# Altium footprint library UM_IMP_Library.PcbLib: 10 footprints
Each footprint in its own frame and in the unit in brackets; x right, y up, seen from the top. Pads: shape width x height; smd on the part's side, far side on the other; paste and mask are expansions set on the pad; w line width, h text height; cw(c..) or ccw(c..) is an arc to the next point about the centre after c.
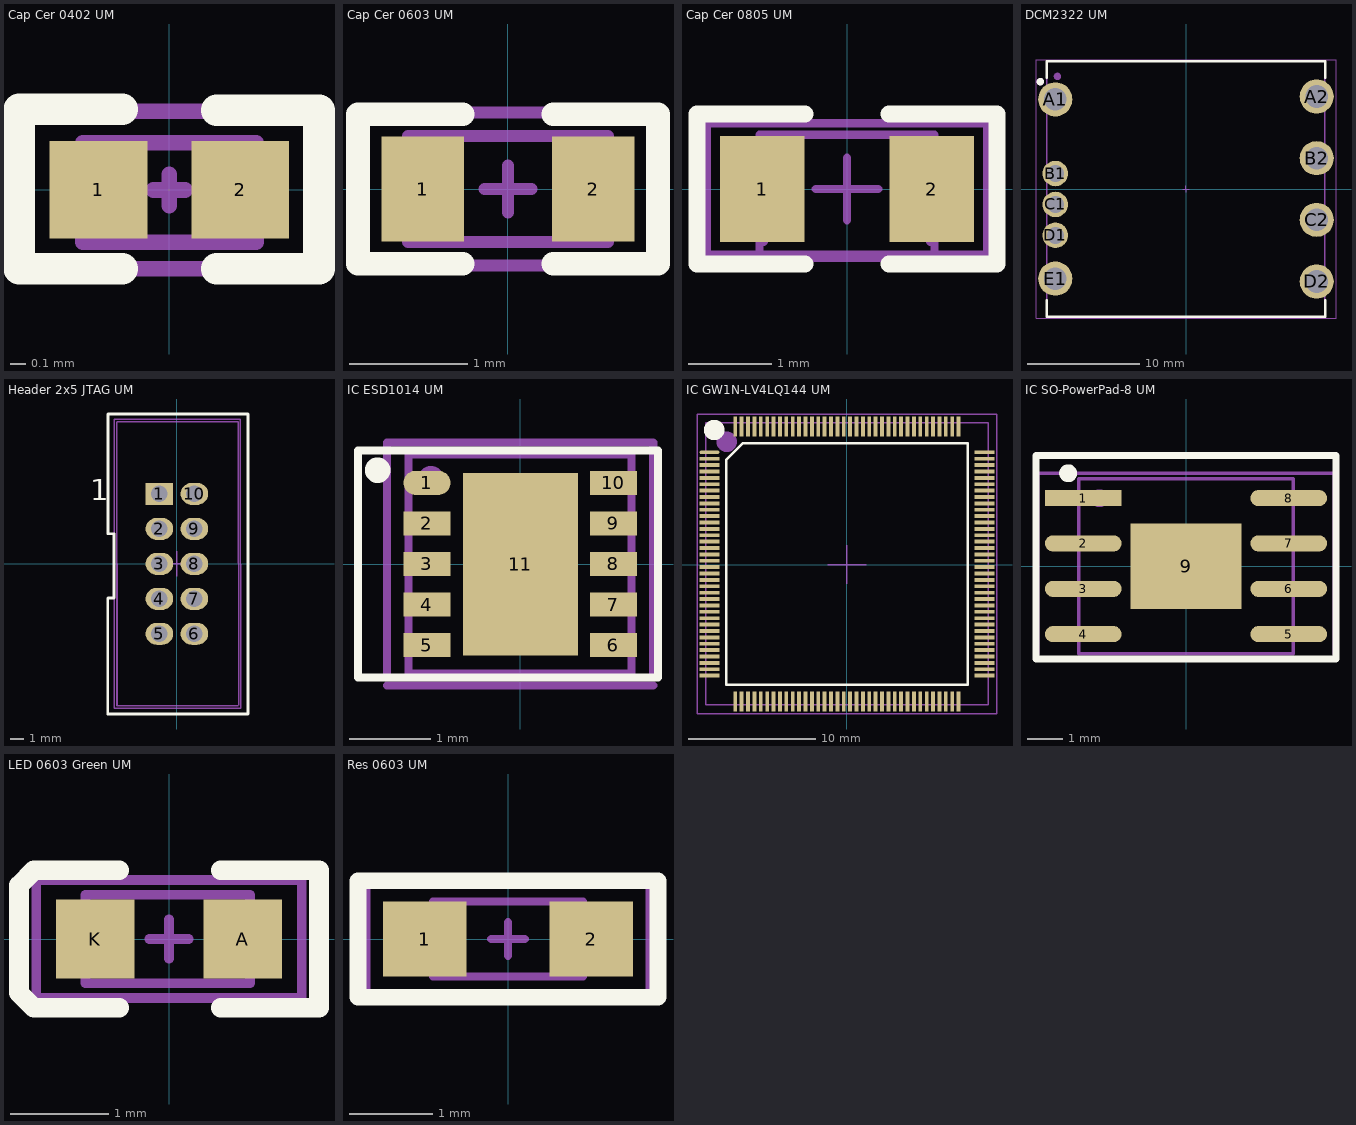
[diagram p0: the footprints below, top view; thin cyan lines are the x and y axes]

## Cap Cer 0402 UM [mm]
pads (2):
  rect 0.62x0.62 smd: 1(-0.45,0) 2(0.45,0)
Top Overlay:
  lines w0.2: -0.3,-0.5 -0.955,-0.5 -0.955,0.512 -0.3,0.512 ; 0.3,-0.5 0.95,-0.5 0.95,0.506 0.3,0.506
Top Assembly (Mech5):
  lines w0.1: -0.55,-0.333 -0.55,0.3 0.55,0.3 0.55,-0.333 -0.55,-0.333
  text ".Designator" at -0.325,-0.058 h0.3
Top Courtyard:
  lines w0.1: -0.1,0 0.1,0 ; 0,-0.1 0,0.1 ; -0.955,-0.5 -0.955,0.5 0.95,0.5 0.95,-0.5 -0.955,-0.5
3D body "User Library-0402C.STEP": height 0.37, standoff 0.01, extent -0.5,-0.265 0.5,0.265

## Cap Cer 0603 UM [mil]
pads (2):
  rect 27.48x35 smd: 1(-28.54,0) 2(28.54,0)
Top Overlay:
  lines w7.87: -15.2,-25 -50.2,-25 -50.2,25 -15.2,25 ; 15.2,-25 50.2,-25 50.2,25 15.2,25
Top Assembly (Mech5):
  lines w3.94: -33.46,-17.72 -33.46,17.72 33.46,17.72 33.46,-17.72 -33.46,-17.72
  text ".Designator" at -22.64,-1.21 h19.68
Top Courtyard:
  lines w3.94: -7.88,0 7.87,0 ; 0,-7.87 0,7.87 ; -50.14,-25.59 48.23,-25.59 48.23,25.59 -50.14,25.59 -50.14,-25.59
Mechanical 32:
  text "Checked" at -145.22,60.98 h80
3D body "User Library-Ceramic_Capacitor_0603_h32mil.STEP": height 31.89, standoff 0.39, extent -31.5,-15.75 31.5,15.75

## Cap Cer 0805 UM [mil]
pads (2):
  rect 40x50 smd: 1(-40,0) 2(40,0)
Top Overlay:
  lines w7.87: -19.68,-35.43 -70.87,-35.43 -70.87,35.43 -19.68,35.43 ; 19.68,-35.43 70.87,-35.43 70.87,35.43 19.68,35.43
Top Assembly:
  lines w3.94: -39.36,-24.99 -39.36,24.96 ; 39.38,-24.99 39.38,24.96
Top Assembly (Mech5):
  lines w3.94: -41.34,-32.48 41.34,-32.48 41.34,25.59 -41.34,25.59 -41.34,-32.48
  text ".Designator" at -22.64,3.71 h19.68
Top Courtyard:
  lines w3.94: -14.76,0 14.76,0 ; 0,-14.76 0,14.76 ; -66.14,-31.1 -66.14,31.1 66.14,31.1 66.14,-31.1 -66.14,-31.1
Mechanical 32:
  text "Not Checked" at -153.14,71.18 h80
3D body "User Library-Ceramic_Capacitor_0805_h32mil.STEP": height 31.89, standoff 0.39, extent -39.37,-24.61 39.37,24.61

## DCM2322 UM [mm]
pads (9):
  round 3.045 hole 2.03: A1(-11.66,8) A2(11.66,8.25) B2(11.66,2.75) C2(11.66,-2.75) D2(11.66,-8.25) E1(-11.66,-8)
  round 2.28 hole 1.52: B1(-11.66,1.38) C1(-11.66,-1.38) D1(-11.66,-4.13)
Top Overlay:
  circle w0.4: c-13,9.575 r0.125
  lines w0.2: -12.42,-9.9 -12.42,-11.4 12.42,-11.4 12.42,-9.9 ; -12.42,9.9 -12.42,11.4 12.42,11.4 12.42,9.9
Top Assembly:
  circle w0.4: c-13,9.575 r0.125
  lines w0.1: -12.42,-11.4 -12.42,11.4 12.42,11.4 12.42,-11.4 -12.42,-11.4
Top Assembly (Mech5):
  circle w0.4: c-11.475,10.05 r0.125
  lines w0.1: -12.375,-11.425 -12.375,11.4 12.4,11.4 12.4,-11.425 -12.375,-11.425
  text ".Designator" at -0.85,-0.314 h1.52
Top Courtyard:
  lines w0.1: -0.275,0 0,0 ; -0.001,-0.004 -0.001,0.271 ; 0,-0.275 0,0 ; 0.275,0 0,0 ; -13.383,-11.55 -13.383,11.55 13.383,11.55 13.383,-11.55 -13.383,-11.55
Mechanical 32:
  text "Not Checked" at -4.35,-0.508 h1.52
3D body "2322_dcm.stp": height 7.36, standoff -4.07, extent -12.422,-11.4 12.415,11.4

## Header 2x5 JTAG UM [mm]
pads (10):
  rect 2x1.6 hole 1.2: 1(-1.27,5.08)
  oval 2x1.6 hole 1.2: 2(-1.27,2.54) 3(-1.27,0) 4(-1.27,-2.54) 5(-1.27,-5.08) 6(1.27,-5.08) 7(1.27,-2.54) 8(1.27,0) 9(1.27,2.54) 10(1.27,5.08)
Top Overlay:
  lines w0.2: -5.025,-2.5 -5.025,-10.9 5.15,-10.9 5.15,10.875 -5,10.875 -5,2.175 -4.575,2.175 -4.575,-2.475 -5,-2.475
  text "1" at -6.3,4.6 h1.52
Top Assembly (Mech5):
  lines w0.1: -4.337,-10.267 -4.35,10.3 -4.35,-10.296 4.463,-10.296 ; -4.325,10.325 4.45,10.325 ; 4.463,10.3 4.476,-10.267
  text "1" at -3.75,4.575 h1.52
  text ".Designator" at -2,1.564 h1
Top Courtyard:
  lines w0.1: -0.9,0 0.9,0 ; 0,-0.9 0,0.9 ; -4.55,-10.5 4.65,-10.5 4.6,10.5 -4.55,10.5 -4.55,-10.5
3D body "User Library-BoxHeader_2R5W_254P_00D.STEP": height 9.11, standoff -3.09, extent -4.35,-10.3 4.45,10.3

## IC ESD1014 UM [mm]
pads (11):
  oval 0.58x0.3 smd: 1(-1.15,1)
  rect 0.58x0.3 smd: 2(-1.15,0.5) 3(-1.15,0) 4(-1.15,-0.5) 5(-1.15,-1) 6(1.15,-1) 7(1.15,-0.5) 8(1.15,0) 9(1.15,0.5) 10(1.15,1)
  rect 1.42x2.25 smd: 11(0.004,-0.005)
Top Overlay:
  circle w0.254: c-1.758,1.157 r0.03
  lines w0.1: -2,-1.4 1.7,-1.4 1.7,1.4 -2,1.4 -2,-1.4
Top Assembly (Mech5):
  circle w0.254: c-1.1,1.05 r0.03
  lines w0.1: -1.375,-1.35 1.375,-1.35 1.375,1.35 -1.375,1.35 -1.375,-1.35
  text ".Designator" at -1.1,0.2 h0.8
Top Courtyard:
  lines w0.1: -1.642,-1.5 1.641,-1.5 ; -1.642,-1.35 -1.642,1.5 1.641,1.5 1.641,-1.35 ; -0.2,0 0.2,0 ; 0,-0.2 0,0.2
3D body "User Library-UDFN10-1.STEP": height 0.8, standoff 0, extent -1.31,-1.3 1.31,1.3

## IC GW1N-LV4LQ144 UM [mm] "FPGA - Field Programmable Gate Array"
pads (144):
  oval 1.55x0.3 smd: 1(-10.775,8.8)
  rect 1.55x0.3 smd: 2(-10.775,8.3) 3(-10.775,7.8) 4(-10.775,7.3) 5(-10.775,6.8) 6(-10.775,6.3) 7(-10.775,5.8) 8(-10.775,5.3) 9(-10.775,4.8) 10(-10.775,4.3) 11(-10.775,3.8) 12(-10.775,3.3) 13(-10.775,2.8) 14(-10.775,2.3) 15(-10.775,1.8) 16(-10.775,1.3) 17(-10.775,0.8) 18(-10.775,0.3) 19(-10.775,-0.2) 20(-10.775,-0.7) 21(-10.775,-1.2) 22(-10.775,-1.7) 23(-10.775,-2.2) 24(-10.775,-2.7) 25(-10.775,-3.2) 26(-10.775,-3.7) 27(-10.775,-4.2) 28(-10.775,-4.7) 29(-10.775,-5.2) 30(-10.775,-5.7) 31(-10.775,-6.2) 32(-10.775,-6.7) 33(-10.775,-7.2) 34(-10.775,-7.7) 35(-10.775,-8.2) 36(-10.775,-8.7) 73(10.775,-8.7) 74(10.775,-8.2) 75(10.775,-7.7) 76(10.775,-7.2) 77(10.775,-6.7) 78(10.775,-6.2) 79(10.775,-5.7) 80(10.775,-5.2) 81(10.775,-4.7) 82(10.775,-4.2) 83(10.775,-3.7) 84(10.775,-3.2) 85(10.775,-2.7) 86(10.775,-2.2) 87(10.775,-1.7) 88(10.775,-1.2) 89(10.775,-0.7) 90(10.775,-0.2) 91(10.775,0.3) 92(10.775,0.8) 93(10.775,1.3) 94(10.775,1.8) 95(10.775,2.3) 96(10.775,2.8) 97(10.775,3.3) 98(10.775,3.8) 99(10.775,4.3) 100(10.775,4.8) 101(10.775,5.3) 102(10.775,5.8) 103(10.775,6.3) 104(10.775,6.8) 105(10.775,7.3) 106(10.775,7.8) 107(10.775,8.3) 108(10.775,8.8)
  rect 0.3x1.55 smd: 37(-8.75,-10.725) 38(-8.25,-10.725) 39(-7.75,-10.725) 40(-7.25,-10.725) 41(-6.75,-10.725) 42(-6.25,-10.725) 43(-5.75,-10.725) 44(-5.25,-10.725) 45(-4.75,-10.725) 46(-4.25,-10.725) 47(-3.75,-10.725) 48(-3.25,-10.725) 49(-2.75,-10.725) 50(-2.25,-10.725) 51(-1.75,-10.725) 52(-1.25,-10.725) 53(-0.75,-10.725) 54(-0.25,-10.725) 55(0.25,-10.725) 56(0.75,-10.725) 57(1.25,-10.725) 58(1.75,-10.725) 59(2.25,-10.725) 60(2.75,-10.725) 61(3.25,-10.725) 62(3.75,-10.725) 63(4.25,-10.725) 64(4.75,-10.725) 65(5.25,-10.725) 66(5.75,-10.725) 67(6.25,-10.725) 68(6.75,-10.725) 69(7.25,-10.725) 70(7.75,-10.725) 71(8.25,-10.725) 72(8.75,-10.725) 109(8.75,10.825) 110(8.25,10.825) 111(7.75,10.825) 112(7.25,10.825) 113(6.75,10.825) 114(6.25,10.825) 115(5.75,10.825) 116(5.25,10.825) 117(4.75,10.825) 118(4.25,10.825) 119(3.75,10.825) 120(3.25,10.825) 121(2.75,10.825) 122(2.25,10.825) 123(1.75,10.825) 124(1.25,10.825) 125(0.75,10.825) 126(0.25,10.825) 127(-0.25,10.825) 128(-0.75,10.825) 129(-1.25,10.825) 130(-1.75,10.825) 131(-2.25,10.825) 132(-2.75,10.825) 133(-3.25,10.825) 134(-3.75,10.825) 135(-4.25,10.825) 136(-4.75,10.825) 137(-5.25,10.825) 138(-5.75,10.825) 139(-6.25,10.825) 140(-6.75,10.825) 141(-7.25,10.825) 142(-7.75,10.825) 143(-8.25,10.825) 144(-8.75,10.825)
Top Overlay:
  circle w1.2: c-10.4,10.55 r0.2
  lines w0.2: -9.465,-9.415 -9.465,8.205 -8.155,9.515 9.465,9.515 9.465,-9.415 -9.465,-9.415
Top Assembly (Mech5):
  circle w1.2: c-9.425,9.625 r0.2
  lines w0.1: -11.075,11.125 11.075,11.125 11.075,-11 -11.05,-11 -11.05,11.125
  text ".Designator" at -4,1.238 h1.52
Top Courtyard:
  lines w0.1: -11.75,-11.704 -11.75,11.799 11.761,11.8 11.76,-11.704 ; -11.75,-11.7 11.76,-11.7 ; -1.5,0 1.5,0 ; 0,-1.5 0,1.5
3D body "User Library-LQFP144-2.STEP": height 1.6, standoff 0, extent -11.075,-11.025 11.075,11.125

## IC SO-PowerPad-8 UM [mm]
pads (9):
  rect 2.15x0.45 smd: 1(-2.875,1.905)
  oval 2.15x0.45 smd: 2(-2.875,0.635) 3(-2.875,-0.635) 4(-2.875,-1.905) 5(2.875,-1.905) 6(2.875,-0.635) 7(2.875,0.635) 8(2.875,1.905)
  rect 3.1x2.4 smd: 9(0,0)
Top Overlay:
  circle w0.25: c-3.3,2.6 r0.125
  lines w0.2: -4.2,-2.6 -4.2,3.1 4.2,3.1 4.2,-2.6 -4.2,-2.6
Top Assembly (Mech5):
  circle w0.25: c-2.425,1.9 r0.125
  lines w0.1: -3,-2.45 -3,2.45 3,2.45 3,-2.45 -3,-2.45
  text ".Designator" at -1.2,0.532 h0.7
Top Courtyard:
  lines w0.1: -4.15,-2.6 4.154,-2.6 ; -4.15,-2.45 -4.15,2.6 4.154,2.6 4.154,-2.45 ; -0.3,0 0.3,0 ; 0,-0.3 0,0.3
3D body "User Library-so8-3.STEP": height 1.7, standoff 0, extent -3,-2.45 3,2.45

## LED 0603 Green UM [mm]
pads (2):
  rect 0.8x0.8 smd: A(0.75,0) K(-0.75,0)
Top Overlay:
  lines w0.2: -1.372,0.7 -0.505,0.7 ; -1.37,0.7 -1.525,0.545 -1.525,-0.547 -1.372,-0.7 -0.505,-0.7 ; 0.525,-0.7 1.525,-0.7 1.525,0.7 0.525,0.7
Top Assembly (Mech5):
  lines w0.1: -0.85,-0.45 0.825,-0.45 0.825,0.45 -0.85,0.45 -0.85,-0.45
  text ".Designator" at -0.6,0.019 h0.5
Top Courtyard:
  lines w0.1: -0.2,0 0.2,0 ; 0,-0.2 0,0.2 ; -1.35,-0.6 -1.35,0.6 1.35,0.6 1.35,-0.6 -1.35,-0.6
Mechanical 32:
  text "Not Checked" at -3.689,1.249 h2.03
3D body "User Library-LED_0603_G.STEP": height 0.6, standoff 0, extent -0.8,-0.4 0.8,0.4

## Res 0603 UM [mm]
pads (2):
  rect 1x0.9 smd: 1(-1,0) 2(1,0)
Top Overlay:
  lines w0.2: -1.8,-0.7 -1.8,0.7 1.8,0.7 1.8,-0.7 -1.8,-0.7
Top Assembly (Mech5):
  lines w0.1: -0.9,-0.45 -0.9,0.45 0.9,0.45 0.9,-0.45 -0.9,-0.45
  text ".Designator" at -0.525,-0.006 h0.5
Top Courtyard:
  lines w0.1: -0.2,0 0.2,0 ; 0,-0.2 0,0.2 ; -1.7,-0.65 -1.7,0.65 1.7,0.65 1.7,-0.65 -1.7,-0.65
3D body "User Library-RES_1609-0603.STEP": height 0.57, standoff 0.01, extent -0.85,-0.4 0.85,0.4